# Altium integrated library PJ-102AH.IntLib: 1 symbol
Pins are listed as number, name and electrical type; pins without a type are passive.

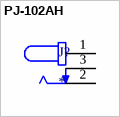
[diagram p0: symbol PJ-102AH]

## PJ-102AH
designator J?
2.0 mm Center Pin, 5.0 A, Right Angle, Through Hole, Tapered Pins, Dc Power Jack Connector; MP: PJ-102AH; Value: *; Availability: Unavailable; Price: None; Package: None
footprint CUI_PJ-102AH
pins: 1, 2, 3